# Altium schematic symbol library MF-RHS1000-0.SchLib: 1 symbol
Pins are listed as number, name and electrical type; pins without a type are passive.

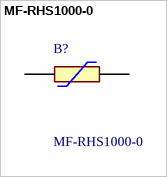
[diagram p0: symbol MF-RHS1000-0]

## MF-RHS1000-0
designator B?
PTC 10.0A 16V RADIAL LEADED HI-TEMP; Manufacturer_Name: Bourns; Geometry.Height: 27.9mm; Mouser Part Number: 652-MF-RHS1000-0; Mouser Price/Stock: https://www.mouser.co.uk/ProductDetail/Bourns/MF-RHS1000-0?qs=mELouGlnn3f3cOBjSincOA%3D%3D; Manufacturer_Part_Number: MF-RHS1000-0; Datasheet Link: *
footprint MFRHS10000
pins: 1, 2